# EAGLE library part JTAG14PIN (library OSSIdonghee)
JTAG 14 Pin Connector
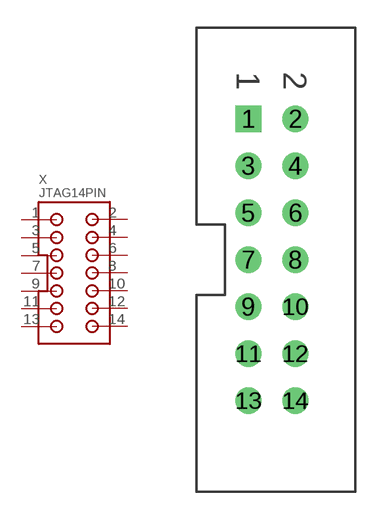
[diagram p2: symbol with the pads of 2514-6002UB; footprint 2514-6002UB]

Designator prefix X

## JTAG14PIN  [2514-6002UB]
1  1
2  2
3  3
4  4
5  5
6  6
7  7
8  8
9  9
10  10
11  11
12  12
13  13
14  14

## Footprint 2514-6002UB (pad centres in mm)
3M™ Four-Wall Header 2500 Series 2514-6002UB connector Digikey Part Number: MHB14K-ND
drill 0.9 square: 1 -1.27,7.62
drill 0.9: 2 1.27,7.62; 3 -1.27,5.08; 4 1.27,5.08; 5 -1.27,2.54; 6 1.27,2.54; 7 -1.27,0; 8 1.27,0; 9 -1.27,-2.54; 10 1.27,-2.54; 11 -1.27,-5.08; 12 1.27,-5.08; 13 -1.27,-7.62; 14 1.27,-7.62